# EAGLE library part MN3011 (library ic-bbd)
3328-Stage BBD with 6 TAPS
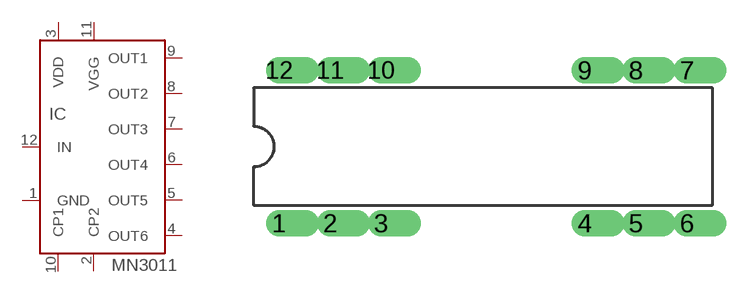
[diagram p8: symbol with the pads of DIL-18; footprint DIL-18]

Designator prefix IC

## MN3011  [DIL-18]
1  GND
2  CP2
3  VDD
4  OUT6
5  OUT5
6  OUT4
7  OUT3
8  OUT2
9  OUT1
10  CP1
11  VGG
12  IN

## Footprint DIL-18 (pad centres in mm)
Dual In Line Package
drill 0.813 offset: 1 -10.16,-3.81; 2 -7.62,-3.81; 3 -5.08,-3.81; 4 5.08,-3.81; 5 7.62,-3.81; 6 10.16,-3.81; 7 10.16,3.81; 8 7.62,3.81; 9 5.08,3.81; 10 -5.08,3.81; 11 -7.62,3.81; 12 -10.16,3.81